# EAGLE library part TLC5928DBQ (library texas)
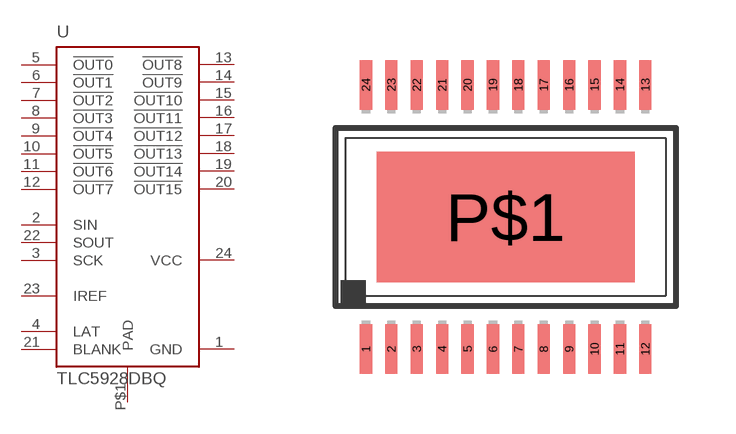
[diagram p60: symbol with the pads of PSOP24; footprint PSOP24]

Designator prefix -

## TLC5928DBQ  [PSOP24]
1  GND  pwr
2  SIN  in
3  SCK  in
4  LAT  in
5  !OUT0  out
6  !OUT1  out
7  !OUT2  out
8  !OUT3  out
9  !OUT4  out
10  !OUT5  out
11  !OUT6  out
12  !OUT7  out
13  !OUT8  out
14  !OUT9  out
15  !OUT10  out
16  !OUT11  out
17  !OUT12  out
18  !OUT13  out
19  !OUT14  out
20  !OUT15  out
21  BLANK  in
22  SOUT  out
23  IREF
24  VCC  pwr
P$1  PAD

## Footprint PSOP24 (pad centres in mm)
smd 0.305 x 1.245: 1 -3.492,-3.302; 2 -2.857,-3.302; 3 -2.222,-3.302; 4 -1.587,-3.302; 5 -0.952,-3.302; 6 -0.317,-3.302; 7 0.318,-3.302; 8 0.953,-3.302; 9 1.588,-3.302; 10 2.223,-3.302; 11 2.857,-3.302; 12 3.492,-3.302; 13 3.493,3.302; 14 2.858,3.302; 15 2.223,3.302; 16 1.588,3.302; 17 0.953,3.302; 18 0.318,3.302; 19 -0.317,3.302; 20 -0.952,3.302; 21 -1.587,3.302; 22 -2.222,3.302; 23 -2.857,3.302; 24 -3.492,3.302
smd 6.452 x 3.251: P$1 0,0